# Altium schematic symbol library 晶振.SchLib: 2 symbols
Pins are listed as number, name and electrical type; pins without a type are passive.

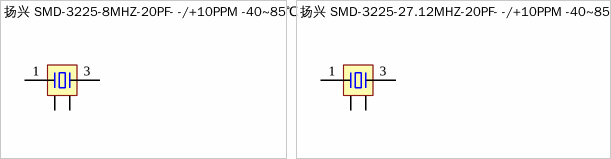
[diagram p0: symbols 扬兴 SMD-3225-8MHZ-20PF- -/+10PPM -40~85℃ to 扬兴 SMD-3225-27.12MHZ-20PF- -/+10PPM -40~85℃]

## 扬兴 SMD-3225-8MHZ-20PF- -/+10PPM -40~85℃
designator Y?, comment 8MHZ 20PF
无源晶振 SMD-3225-8MHZ-20PF- -/+10PPM -40~85℃; 厂家: 扬兴; 厂家型号: 扬兴 SMD-3225-8MHZ-20PF- -/+10PPM; 金蝶料号: 010110020010; 插件/贴片: 贴片; 器件状态: 启用; 工作温度: -40~85℃; 值: SMD-3225-8MHZ-20PF- -/+10PPM; ComponentLink1Description: New link; ComponentLink1URL: *
footprint SMD-3225_4P
pins: 1, 2, 3, 4

## 扬兴 SMD-3225-27.12MHZ-20PF- -/+10PPM -40~85℃
designator Y?, comment 27.12MHZ 20PF
无源晶振 SMD-3225-27.12MHZ-20PF- -/+10PPM -40~85℃; 厂家: 杨兴; 金蝶料号: 010110020009; 插件/贴片: 贴片; 器件状态: 启用; 厂家型号: SMD-3225-27.12MHZ-20PF- -/+10PPM; 工作温度: -40~85℃; ComponentLink1Description: New link; ComponentLink1URL: *
footprint SMD-3225_4P
pins: 1, 2, 3, 4